# Altium footprint library FT232RQ-REEL.PcbLib: 3 footprints
Each footprint in its own frame and in the unit in brackets; x right, y up, seen from the top. Pads: shape width x height; smd on the part's side, far side on the other; paste and mask are expansions set on the pad; w line width, h text height; cw(c..) or ccw(c..) is an arc to the next point about the centre after c.
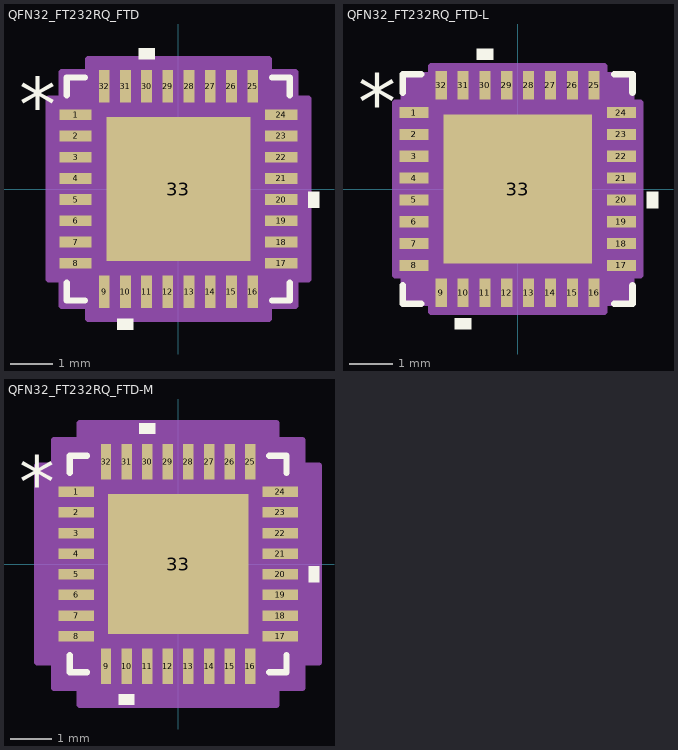
[diagram p0: the footprints below, top view; thin cyan lines are the x and y axes]

## QFN32_FT232RQ_FTD [mil]
pads (33):
  rect 30x10 smd paste+0 mask+0: 1(-95.5,68.92) 2(-95.5,49.23) 3(-95.5,29.54) 4(-95.5,9.85) 5(-95.5,-9.85) 6(-95.5,-29.54) 7(-95.5,-49.23) 8(-95.5,-68.92) 17(95.5,-68.92) 18(95.5,-49.23) 19(95.5,-29.54) 20(95.5,-9.85) 21(95.5,9.85) 22(95.5,29.54) 23(95.5,49.23) 24(95.5,68.92)
  rect 10x30 smd paste+0 mask+0: 9(-68.92,-95.5) 10(-49.23,-95.5) 11(-29.54,-95.5) 12(-9.85,-95.5) 13(9.85,-95.5) 14(29.54,-95.5) 15(49.23,-95.5) 16(68.92,-95.5) 25(68.92,95.5) 26(49.23,95.5) 27(29.54,95.5) 28(9.85,95.5) 29(-9.85,95.5) 30(-29.54,95.5) 31(-49.23,95.5) 32(-68.92,95.5)
  rect 134x134 smd paste-67 mask+0: 33(0,0)
Top Overlay:
  region: -41.73,-120.5 -56.73,-120.5 -56.73,-130.5 -41.73,-130.5
  region: 120.5,-2.35 130.5,-2.35 130.5,-17.34 120.5,-17.34
  region: -22.04,120.5 -37.03,120.5 -37.03,130.5 -22.04,130.5
  lines w6: -103.5,-87.02 -103.5,-103.5 -87.02,-103.5 ; -103.5,87.02 -103.5,103.5 -87.02,103.5 ; 87.02,-103.5 103.5,-103.5 103.5,-87.02 ; 87.02,103.5 103.5,103.5 103.5,87.02
  text "*" at -148,53.76 h50
Top Paste:
  region: -3.94,63.06 -63.06,63.06 -63.06,3.94 -3.94,3.94
  region: -3.94,-3.94 -63.06,-3.94 -63.06,-63.06 -3.94,-63.06
  region: 63.06,63.06 3.94,63.06 3.94,3.94 63.06,3.94
  region: 63.06,-3.94 3.94,-3.94 3.94,-63.06 63.06,-63.06
Mechanical 13:
  lines w1: -98.5,48.5 -48.5,98.5 ; -98.5,-98.5 98.5,-98.5 ; -98.5,-98.5 -98.5,98.5 ; -98.5,-98.5 -98.5,-98.5 ; -98.5,-74.92 -98.5,-62.91 ; -98.5,-74.92 -98.5,-62.91 ; -98.5,-74.92 -98.5,-74.92 ; -98.5,-62.91 -98.5,-62.91 ; -98.5,-55.23 -98.5,-43.23 ; -98.5,-55.23 -98.5,-43.23 ; -98.5,-55.23 -98.5,-55.23 ; -98.5,-43.23 -98.5,-43.23 ; -98.5,-35.53 -98.5,-23.54 ; -98.5,-35.53 -98.5,-23.54 ; -98.5,-35.53 -98.5,-35.53 ; -98.5,-23.54 -98.5,-23.54 ; -98.5,-15.85 -98.5,-3.85 ; -98.5,-15.85 -98.5,-3.85 ; -98.5,-15.85 -98.5,-15.85 ; -98.5,-3.85 -98.5,-3.85 ; -98.5,3.85 -98.5,15.85 ; -98.5,3.85 -98.5,15.85 ; -98.5,3.85 -98.5,3.85 ; -98.5,15.85 -98.5,15.85 ; -98.5,23.54 -98.5,35.53 ; -98.5,23.54 -98.5,35.53 ; -98.5,23.54 -98.5,23.54 ; -98.5,35.53 -98.5,35.53 ; -98.5,43.23 -98.5,55.23 ; -98.5,43.23 -98.5,55.23 ; -98.5,43.23 -98.5,43.23 ; -98.5,55.23 -98.5,55.23 ; -98.5,62.91 -98.5,74.92 ; -98.5,62.91 -98.5,74.92 ; -98.5,62.91 -98.5,62.91 ; -98.5,74.92 -98.5,74.92 ; -98.5,98.5 98.5,98.5 ; -98.5,98.5 -98.5,98.5 ; -74.92,-98.5 -62.91,-98.5 ; -74.92,-98.5 -74.92,-98.5 ; -74.92,-98.5 -62.91,-98.5 ; -74.92,98.5 -62.91,98.5 ; -74.92,98.5 -62.91,98.5 ; -74.92,98.5 -74.92,98.5 ; -62.91,-98.5 -62.91,-98.5 ; -62.91,98.5 -62.91,98.5 ; -55.23,-98.5 -43.23,-98.5 ; -55.23,-98.5 -55.23,-98.5 ; -55.23,-98.5 -43.23,-98.5 ; -55.23,98.5 -43.23,98.5 ; -55.23,98.5 -43.23,98.5 ; -55.23,98.5 -55.23,98.5 ; -43.23,-98.5 -43.23,-98.5 ; -43.23,98.5 -43.23,98.5 ; -35.53,-98.5 -23.54,-98.5 ; -35.53,-98.5 -35.53,-98.5 ; -35.53,-98.5 -23.54,-98.5 ; -35.53,98.5 -23.54,98.5 ; -35.53,98.5 -23.54,98.5 ; -35.53,98.5 -35.53,98.5 ; -23.54,-98.5 -23.54,-98.5 ; -23.54,98.5 -23.54,98.5 ; -15.85,-98.5 -3.85,-98.5 ; -15.85,-98.5 -15.85,-98.5 ; -15.85,-98.5 -3.85,-98.5 ; -15.85,98.5 -3.85,98.5 ; -15.85,98.5 -3.85,98.5 ; -15.85,98.5 -15.85,98.5 ; -3.85,-98.5 -3.85,-98.5 ; -3.85,98.5 -3.85,98.5 ; 3.85,-98.5 15.85,-98.5 ; 3.85,-98.5 3.85,-98.5 ; 3.85,-98.5 15.85,-98.5 ; 3.85,98.5 15.85,98.5 ; 3.85,98.5 15.85,98.5 ; 3.85,98.5 3.85,98.5 ; 15.85,-98.5 15.85,-98.5 ; 15.85,98.5 15.85,98.5 ; 23.54,-98.5 35.53,-98.5 ; 23.54,-98.5 23.54,-98.5 ; 23.54,-98.5 35.53,-98.5 ; 23.54,98.5 35.53,98.5 ; 23.54,98.5 35.53,98.5 ; 23.54,98.5 23.54,98.5 ; 35.53,-98.5 35.53,-98.5 ; 35.53,98.5 35.53,98.5 ; 43.23,-98.5 55.23,-98.5 ; 43.23,-98.5 43.23,-98.5 ; 43.23,-98.5 55.23,-98.5 ; 43.23,98.5 55.23,98.5 ; 43.23,98.5 55.23,98.5 ; 43.23,98.5 43.23,98.5 ; 55.23,-98.5 55.23,-98.5 ; 55.23,98.5 55.23,98.5 ; 62.91,-98.5 74.92,-98.5 ; 62.91,-98.5 62.91,-98.5 ; 62.91,-98.5 74.92,-98.5 ; 62.91,98.5 74.92,98.5 ; 62.91,98.5 74.92,98.5 ; 62.91,98.5 62.91,98.5 ; 74.92,-98.5 74.92,-98.5 ; 74.92,98.5 74.92,98.5 ; 98.5,-98.5 98.5,-98.5 ; 98.5,-98.5 98.5,98.5 ; 98.5,-74.92 98.5,-62.91 ; 98.5,-74.92 98.5,-74.92 ; 98.5,-74.92 98.5,-62.91 ; 98.5,-62.91 98.5,-62.91 ; 98.5,-55.23 98.5,-43.23 ; 98.5,-55.23 98.5,-55.23 ; 98.5,-55.23 98.5,-43.23 ; 98.5,-43.23 98.5,-43.23 ; 98.5,-35.53 98.5,-23.54 ; 98.5,-35.53 98.5,-35.53 ; 98.5,-35.53 98.5,-23.54 ; 98.5,-23.54 98.5,-23.54 ; 98.5,-15.85 98.5,-3.85 ; 98.5,-15.85 98.5,-15.85 ; 98.5,-15.85 98.5,-3.85 ; 98.5,-3.85 98.5,-3.85 ; 98.5,3.85 98.5,15.85 ; 98.5,3.85 98.5,3.85 ; 98.5,3.85 98.5,15.85 ; 98.5,15.85 98.5,15.85 ; 98.5,23.54 98.5,35.53 ; 98.5,23.54 98.5,23.54 ; 98.5,23.54 98.5,35.53 ; 98.5,35.53 98.5,35.53 ; 98.5,43.23 98.5,55.23 ; 98.5,43.23 98.5,43.23 ; 98.5,43.23 98.5,55.23 ; 98.5,55.23 98.5,55.23 ; 98.5,62.91 98.5,74.92 ; 98.5,62.91 98.5,62.91 ; 98.5,62.91 98.5,74.92 ; 98.5,74.92 98.5,74.92 ; 98.5,98.5 98.5,98.5
  text "*" at -93,53.76 h50
Mechanical 15:
  region: -83.92,-108.5 -108.5,-108.5 -108.5,-83.92 -120.5,-83.92 -120.5,83.92 -108.5,83.92 -108.5,108.5 -83.92,108.5 -83.92,120.5 83.92,120.5 83.92,108.5 108.5,108.5 108.5,83.92 120.5,83.92 120.5,-83.92 108.5,-83.92 108.5,-108.5 83.92,-108.5 83.92,-120.5 -83.92,-120.5
  lines w6: -120.5,-83.92 -108.5,-83.92 -108.5,-108.5 -83.92,-108.5 -83.92,-120.5 83.92,-120.5 83.92,-108.5 108.5,-108.5 108.5,-83.92 120.5,-83.92 120.5,83.92 108.5,83.92 108.5,108.5 83.92,108.5 83.92,120.5 -83.92,120.5 -83.92,108.5 -108.5,108.5 -108.5,83.92 -120.5,83.92 -120.5,-83.92
3D body "QFN32_FT232RQ_FTD.step": height 35.12, standoff 0, extent -98.5,-98.5 98.5,98.5

## QFN32_FT232RQ_FTD-L [mil]
pads (33):
  rect 26x10 smd paste+0 mask+0: 1(-93.5,68.92) 2(-93.5,49.23) 3(-93.5,29.54) 4(-93.5,9.85) 5(-93.5,-9.85) 6(-93.5,-29.54) 7(-93.5,-49.23) 8(-93.5,-68.92) 17(93.5,-68.92) 18(93.5,-49.23) 19(93.5,-29.54) 20(93.5,-9.85) 21(93.5,9.85) 22(93.5,29.54) 23(93.5,49.23) 24(93.5,68.92)
  rect 10x26 smd paste+0 mask+0: 9(-68.92,-93.5) 10(-49.23,-93.5) 11(-29.54,-93.5) 12(-9.85,-93.5) 13(9.85,-93.5) 14(29.54,-93.5) 15(49.23,-93.5) 16(68.92,-93.5) 25(68.92,93.5) 26(49.23,93.5) 27(29.54,93.5) 28(9.85,93.5) 29(-9.85,93.5) 30(-29.54,93.5) 31(-49.23,93.5) 32(-68.92,93.5)
  rect 134x134 smd paste-67 mask+0: 33(0,0)
Top Overlay:
  region: -41.73,-116.5 -56.73,-116.5 -56.73,-126.5 -41.73,-126.5
  region: 116.5,-2.35 126.5,-2.35 126.5,-17.34 116.5,-17.34
  region: -22.04,116.5 -37.03,116.5 -37.03,126.5 -22.04,126.5
  lines w6: -103.5,-87.02 -103.5,-103.5 -87.02,-103.5 ; -103.5,87.02 -103.5,103.5 -87.02,103.5 ; 87.02,-103.5 103.5,-103.5 103.5,-87.02 ; 87.02,103.5 103.5,103.5 103.5,87.02
  text "*" at -144,53.76 h50
Top Paste:
  region: -3.94,63.06 -63.06,63.06 -63.06,3.94 -3.94,3.94
  region: -3.94,-3.94 -63.06,-3.94 -63.06,-63.06 -3.94,-63.06
  region: 63.06,63.06 3.94,63.06 3.94,3.94 63.06,3.94
  region: 63.06,-3.94 3.94,-3.94 3.94,-63.06 63.06,-63.06
Mechanical 13:
  lines w1: -98.5,48.5 -48.5,98.5 ; -98.5,-98.5 98.5,-98.5 ; -98.5,-98.5 -98.5,98.5 ; -98.5,-98.5 -98.5,-98.5 ; -98.5,-74.92 -98.5,-62.91 ; -98.5,-74.92 -98.5,-62.91 ; -98.5,-74.92 -98.5,-74.92 ; -98.5,-62.91 -98.5,-62.91 ; -98.5,-55.23 -98.5,-43.23 ; -98.5,-55.23 -98.5,-43.23 ; -98.5,-55.23 -98.5,-55.23 ; -98.5,-43.23 -98.5,-43.23 ; -98.5,-35.53 -98.5,-23.54 ; -98.5,-35.53 -98.5,-23.54 ; -98.5,-35.53 -98.5,-35.53 ; -98.5,-23.54 -98.5,-23.54 ; -98.5,-15.85 -98.5,-3.85 ; -98.5,-15.85 -98.5,-3.85 ; -98.5,-15.85 -98.5,-15.85 ; -98.5,-3.85 -98.5,-3.85 ; -98.5,3.85 -98.5,15.85 ; -98.5,3.85 -98.5,15.85 ; -98.5,3.85 -98.5,3.85 ; -98.5,15.85 -98.5,15.85 ; -98.5,23.54 -98.5,35.53 ; -98.5,23.54 -98.5,35.53 ; -98.5,23.54 -98.5,23.54 ; -98.5,35.53 -98.5,35.53 ; -98.5,43.23 -98.5,55.23 ; -98.5,43.23 -98.5,55.23 ; -98.5,43.23 -98.5,43.23 ; -98.5,55.23 -98.5,55.23 ; -98.5,62.91 -98.5,74.92 ; -98.5,62.91 -98.5,74.92 ; -98.5,62.91 -98.5,62.91 ; -98.5,74.92 -98.5,74.92 ; -98.5,98.5 98.5,98.5 ; -98.5,98.5 -98.5,98.5 ; -74.92,-98.5 -62.91,-98.5 ; -74.92,-98.5 -74.92,-98.5 ; -74.92,-98.5 -62.91,-98.5 ; -74.92,98.5 -62.91,98.5 ; -74.92,98.5 -62.91,98.5 ; -74.92,98.5 -74.92,98.5 ; -62.91,-98.5 -62.91,-98.5 ; -62.91,98.5 -62.91,98.5 ; -55.23,-98.5 -43.23,-98.5 ; -55.23,-98.5 -55.23,-98.5 ; -55.23,-98.5 -43.23,-98.5 ; -55.23,98.5 -43.23,98.5 ; -55.23,98.5 -43.23,98.5 ; -55.23,98.5 -55.23,98.5 ; -43.23,-98.5 -43.23,-98.5 ; -43.23,98.5 -43.23,98.5 ; -35.53,-98.5 -23.54,-98.5 ; -35.53,-98.5 -35.53,-98.5 ; -35.53,-98.5 -23.54,-98.5 ; -35.53,98.5 -23.54,98.5 ; -35.53,98.5 -23.54,98.5 ; -35.53,98.5 -35.53,98.5 ; -23.54,-98.5 -23.54,-98.5 ; -23.54,98.5 -23.54,98.5 ; -15.85,-98.5 -3.85,-98.5 ; -15.85,-98.5 -15.85,-98.5 ; -15.85,-98.5 -3.85,-98.5 ; -15.85,98.5 -3.85,98.5 ; -15.85,98.5 -3.85,98.5 ; -15.85,98.5 -15.85,98.5 ; -3.85,-98.5 -3.85,-98.5 ; -3.85,98.5 -3.85,98.5 ; 3.85,-98.5 15.85,-98.5 ; 3.85,-98.5 3.85,-98.5 ; 3.85,-98.5 15.85,-98.5 ; 3.85,98.5 15.85,98.5 ; 3.85,98.5 15.85,98.5 ; 3.85,98.5 3.85,98.5 ; 15.85,-98.5 15.85,-98.5 ; 15.85,98.5 15.85,98.5 ; 23.54,-98.5 35.53,-98.5 ; 23.54,-98.5 23.54,-98.5 ; 23.54,-98.5 35.53,-98.5 ; 23.54,98.5 35.53,98.5 ; 23.54,98.5 35.53,98.5 ; 23.54,98.5 23.54,98.5 ; 35.53,-98.5 35.53,-98.5 ; 35.53,98.5 35.53,98.5 ; 43.23,-98.5 55.23,-98.5 ; 43.23,-98.5 43.23,-98.5 ; 43.23,-98.5 55.23,-98.5 ; 43.23,98.5 55.23,98.5 ; 43.23,98.5 55.23,98.5 ; 43.23,98.5 43.23,98.5 ; 55.23,-98.5 55.23,-98.5 ; 55.23,98.5 55.23,98.5 ; 62.91,-98.5 74.92,-98.5 ; 62.91,-98.5 62.91,-98.5 ; 62.91,-98.5 74.92,-98.5 ; 62.91,98.5 74.92,98.5 ; 62.91,98.5 74.92,98.5 ; 62.91,98.5 62.91,98.5 ; 74.92,-98.5 74.92,-98.5 ; 74.92,98.5 74.92,98.5 ; 98.5,-98.5 98.5,-98.5 ; 98.5,-98.5 98.5,98.5 ; 98.5,-74.92 98.5,-62.91 ; 98.5,-74.92 98.5,-74.92 ; 98.5,-74.92 98.5,-62.91 ; 98.5,-62.91 98.5,-62.91 ; 98.5,-55.23 98.5,-43.23 ; 98.5,-55.23 98.5,-55.23 ; 98.5,-55.23 98.5,-43.23 ; 98.5,-43.23 98.5,-43.23 ; 98.5,-35.53 98.5,-23.54 ; 98.5,-35.53 98.5,-35.53 ; 98.5,-35.53 98.5,-23.54 ; 98.5,-23.54 98.5,-23.54 ; 98.5,-15.85 98.5,-3.85 ; 98.5,-15.85 98.5,-15.85 ; 98.5,-15.85 98.5,-3.85 ; 98.5,-3.85 98.5,-3.85 ; 98.5,3.85 98.5,15.85 ; 98.5,3.85 98.5,3.85 ; 98.5,3.85 98.5,15.85 ; 98.5,15.85 98.5,15.85 ; 98.5,23.54 98.5,35.53 ; 98.5,23.54 98.5,23.54 ; 98.5,23.54 98.5,35.53 ; 98.5,35.53 98.5,35.53 ; 98.5,43.23 98.5,55.23 ; 98.5,43.23 98.5,43.23 ; 98.5,43.23 98.5,55.23 ; 98.5,55.23 98.5,55.23 ; 98.5,62.91 98.5,74.92 ; 98.5,62.91 98.5,62.91 ; 98.5,62.91 98.5,74.92 ; 98.5,74.92 98.5,74.92 ; 98.5,98.5 98.5,98.5
  text "*" at -93,53.76 h50
Mechanical 15:
  region: -77.92,-102.5 -102.5,-102.5 -102.5,-77.92 -110.5,-77.92 -110.5,77.92 -102.5,77.92 -102.5,102.5 -77.92,102.5 -77.92,110.5 77.92,110.5 77.92,102.5 102.5,102.5 102.5,77.92 110.5,77.92 110.5,-77.92 102.5,-77.92 102.5,-102.5 77.92,-102.5 77.92,-110.5 -77.92,-110.5
  lines w6: -110.5,-77.92 -102.5,-77.92 -102.5,-102.5 -77.92,-102.5 -77.92,-110.5 77.92,-110.5 77.92,-102.5 102.5,-102.5 102.5,-77.92 110.5,-77.92 110.5,77.92 102.5,77.92 102.5,102.5 77.92,102.5 77.92,110.5 -77.92,110.5 -77.92,102.5 -102.5,102.5 -102.5,77.92 -110.5,77.92 -110.5,-77.92
3D body "QFN32_FT232RQ_FTD.step": height 35.12, standoff 0, extent -98.5,-98.5 98.5,98.5

## QFN32_FT232RQ_FTD-M [mil]
pads (33):
  rect 34x10 smd paste+0 mask+0: 1(-97.5,68.92) 2(-97.5,49.23) 3(-97.5,29.54) 4(-97.5,9.85) 5(-97.5,-9.85) 6(-97.5,-29.54) 7(-97.5,-49.23) 8(-97.5,-68.92) 17(97.5,-68.92) 18(97.5,-49.23) 19(97.5,-29.54) 20(97.5,-9.85) 21(97.5,9.85) 22(97.5,29.54) 23(97.5,49.23) 24(97.5,68.92)
  rect 10x34 smd paste+0 mask+0: 9(-68.92,-97.5) 10(-49.23,-97.5) 11(-29.54,-97.5) 12(-9.85,-97.5) 13(9.85,-97.5) 14(29.54,-97.5) 15(49.23,-97.5) 16(68.92,-97.5) 25(68.92,97.5) 26(49.23,97.5) 27(29.54,97.5) 28(9.85,97.5) 29(-9.85,97.5) 30(-29.54,97.5) 31(-49.23,97.5) 32(-68.92,97.5)
  rect 134x134 smd paste-67 mask+0: 33(0,0)
Top Overlay:
  region: -41.73,-124.5 -56.73,-124.5 -56.73,-134.5 -41.73,-134.5
  region: 124.5,-2.35 134.5,-2.35 134.5,-17.34 124.5,-17.34
  region: -22.04,124.5 -37.03,124.5 -37.03,134.5 -22.04,134.5
  lines w6: -103.5,-87.02 -103.5,-103.5 -87.02,-103.5 ; -103.5,87.02 -103.5,103.5 -87.02,103.5 ; 87.02,-103.5 103.5,-103.5 103.5,-87.02 ; 87.02,103.5 103.5,103.5 103.5,87.02
  text "*" at -152,53.76 h50
Top Paste:
  region: -3.94,63.06 -63.06,63.06 -63.06,3.94 -3.94,3.94
  region: -3.94,-3.94 -63.06,-3.94 -63.06,-63.06 -3.94,-63.06
  region: 63.06,63.06 3.94,63.06 3.94,3.94 63.06,3.94
  region: 63.06,-3.94 3.94,-3.94 3.94,-63.06 63.06,-63.06
Mechanical 13:
  lines w1: -98.5,48.5 -48.5,98.5 ; -98.5,-98.5 98.5,-98.5 ; -98.5,-98.5 -98.5,98.5 ; -98.5,-98.5 -98.5,-98.5 ; -98.5,-74.92 -98.5,-62.91 ; -98.5,-74.92 -98.5,-62.91 ; -98.5,-74.92 -98.5,-74.92 ; -98.5,-62.91 -98.5,-62.91 ; -98.5,-55.23 -98.5,-43.23 ; -98.5,-55.23 -98.5,-43.23 ; -98.5,-55.23 -98.5,-55.23 ; -98.5,-43.23 -98.5,-43.23 ; -98.5,-35.53 -98.5,-23.54 ; -98.5,-35.53 -98.5,-23.54 ; -98.5,-35.53 -98.5,-35.53 ; -98.5,-23.54 -98.5,-23.54 ; -98.5,-15.85 -98.5,-3.85 ; -98.5,-15.85 -98.5,-3.85 ; -98.5,-15.85 -98.5,-15.85 ; -98.5,-3.85 -98.5,-3.85 ; -98.5,3.85 -98.5,15.85 ; -98.5,3.85 -98.5,15.85 ; -98.5,3.85 -98.5,3.85 ; -98.5,15.85 -98.5,15.85 ; -98.5,23.54 -98.5,35.53 ; -98.5,23.54 -98.5,35.53 ; -98.5,23.54 -98.5,23.54 ; -98.5,35.53 -98.5,35.53 ; -98.5,43.23 -98.5,55.23 ; -98.5,43.23 -98.5,55.23 ; -98.5,43.23 -98.5,43.23 ; -98.5,55.23 -98.5,55.23 ; -98.5,62.91 -98.5,74.92 ; -98.5,62.91 -98.5,74.92 ; -98.5,62.91 -98.5,62.91 ; -98.5,74.92 -98.5,74.92 ; -98.5,98.5 98.5,98.5 ; -98.5,98.5 -98.5,98.5 ; -74.92,-98.5 -62.91,-98.5 ; -74.92,-98.5 -74.92,-98.5 ; -74.92,-98.5 -62.91,-98.5 ; -74.92,98.5 -62.91,98.5 ; -74.92,98.5 -62.91,98.5 ; -74.92,98.5 -74.92,98.5 ; -62.91,-98.5 -62.91,-98.5 ; -62.91,98.5 -62.91,98.5 ; -55.23,-98.5 -43.23,-98.5 ; -55.23,-98.5 -55.23,-98.5 ; -55.23,-98.5 -43.23,-98.5 ; -55.23,98.5 -43.23,98.5 ; -55.23,98.5 -43.23,98.5 ; -55.23,98.5 -55.23,98.5 ; -43.23,-98.5 -43.23,-98.5 ; -43.23,98.5 -43.23,98.5 ; -35.53,-98.5 -23.54,-98.5 ; -35.53,-98.5 -35.53,-98.5 ; -35.53,-98.5 -23.54,-98.5 ; -35.53,98.5 -23.54,98.5 ; -35.53,98.5 -23.54,98.5 ; -35.53,98.5 -35.53,98.5 ; -23.54,-98.5 -23.54,-98.5 ; -23.54,98.5 -23.54,98.5 ; -15.85,-98.5 -3.85,-98.5 ; -15.85,-98.5 -15.85,-98.5 ; -15.85,-98.5 -3.85,-98.5 ; -15.85,98.5 -3.85,98.5 ; -15.85,98.5 -3.85,98.5 ; -15.85,98.5 -15.85,98.5 ; -3.85,-98.5 -3.85,-98.5 ; -3.85,98.5 -3.85,98.5 ; 3.85,-98.5 15.85,-98.5 ; 3.85,-98.5 3.85,-98.5 ; 3.85,-98.5 15.85,-98.5 ; 3.85,98.5 15.85,98.5 ; 3.85,98.5 15.85,98.5 ; 3.85,98.5 3.85,98.5 ; 15.85,-98.5 15.85,-98.5 ; 15.85,98.5 15.85,98.5 ; 23.54,-98.5 35.53,-98.5 ; 23.54,-98.5 23.54,-98.5 ; 23.54,-98.5 35.53,-98.5 ; 23.54,98.5 35.53,98.5 ; 23.54,98.5 35.53,98.5 ; 23.54,98.5 23.54,98.5 ; 35.53,-98.5 35.53,-98.5 ; 35.53,98.5 35.53,98.5 ; 43.23,-98.5 55.23,-98.5 ; 43.23,-98.5 43.23,-98.5 ; 43.23,-98.5 55.23,-98.5 ; 43.23,98.5 55.23,98.5 ; 43.23,98.5 55.23,98.5 ; 43.23,98.5 43.23,98.5 ; 55.23,-98.5 55.23,-98.5 ; 55.23,98.5 55.23,98.5 ; 62.91,-98.5 74.92,-98.5 ; 62.91,-98.5 62.91,-98.5 ; 62.91,-98.5 74.92,-98.5 ; 62.91,98.5 74.92,98.5 ; 62.91,98.5 74.92,98.5 ; 62.91,98.5 62.91,98.5 ; 74.92,-98.5 74.92,-98.5 ; 74.92,98.5 74.92,98.5 ; 98.5,-98.5 98.5,-98.5 ; 98.5,-98.5 98.5,98.5 ; 98.5,-74.92 98.5,-62.91 ; 98.5,-74.92 98.5,-74.92 ; 98.5,-74.92 98.5,-62.91 ; 98.5,-62.91 98.5,-62.91 ; 98.5,-55.23 98.5,-43.23 ; 98.5,-55.23 98.5,-55.23 ; 98.5,-55.23 98.5,-43.23 ; 98.5,-43.23 98.5,-43.23 ; 98.5,-35.53 98.5,-23.54 ; 98.5,-35.53 98.5,-35.53 ; 98.5,-35.53 98.5,-23.54 ; 98.5,-23.54 98.5,-23.54 ; 98.5,-15.85 98.5,-3.85 ; 98.5,-15.85 98.5,-15.85 ; 98.5,-15.85 98.5,-3.85 ; 98.5,-3.85 98.5,-3.85 ; 98.5,3.85 98.5,15.85 ; 98.5,3.85 98.5,3.85 ; 98.5,3.85 98.5,15.85 ; 98.5,15.85 98.5,15.85 ; 98.5,23.54 98.5,35.53 ; 98.5,23.54 98.5,23.54 ; 98.5,23.54 98.5,35.53 ; 98.5,35.53 98.5,35.53 ; 98.5,43.23 98.5,55.23 ; 98.5,43.23 98.5,43.23 ; 98.5,43.23 98.5,55.23 ; 98.5,55.23 98.5,55.23 ; 98.5,62.91 98.5,74.92 ; 98.5,62.91 98.5,62.91 ; 98.5,62.91 98.5,74.92 ; 98.5,74.92 98.5,74.92 ; 98.5,98.5 98.5,98.5
  text "*" at -93,53.76 h50
Mechanical 15:
  region: -93.92,-118.5 -118.5,-118.5 -118.5,-93.92 -134.5,-93.92 -134.5,93.92 -118.5,93.92 -118.5,118.5 -93.92,118.5 -93.92,134.5 93.92,134.5 93.92,118.5 118.5,118.5 118.5,93.92 134.5,93.92 134.5,-93.92 118.5,-93.92 118.5,-118.5 93.92,-118.5 93.92,-134.5 -93.92,-134.5
  lines w6: -134.5,-93.92 -118.5,-93.92 -118.5,-118.5 -93.92,-118.5 -93.92,-134.5 93.92,-134.5 93.92,-118.5 118.5,-118.5 118.5,-93.92 134.5,-93.92 134.5,93.92 118.5,93.92 118.5,118.5 93.92,118.5 93.92,134.5 -93.92,134.5 -93.92,118.5 -118.5,118.5 -118.5,93.92 -134.5,93.92 -134.5,-93.92
3D body "QFN32_FT232RQ_FTD.step": height 35.12, standoff 0, extent -98.5,-98.5 98.5,98.5